# EAGLE library part TDA1543 (library chip)
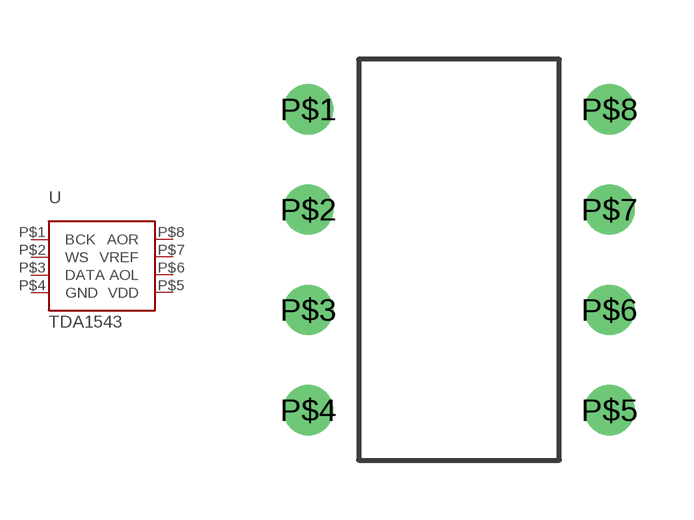
[diagram p1: symbol with the pads of DIP8; footprint DIP8]

Designator prefix U

## TDA1543  [DIP8]
P$1  BCK
P$2  WS
P$3  DATA
P$4  GND
P$5  VDD
P$6  AOL
P$7  VREF
P$8  AOR

## Footprint DIP8 (pad centres in mm)
drill 0.762: P$1 -3.81,3.81; P$2 -3.81,1.27; P$3 -3.81,-1.27; P$4 -3.81,-3.81; P$5 3.81,-3.81; P$6 3.81,-1.27; P$7 3.81,1.27; P$8 3.81,3.81